# Altium integrated library TI_Logic_Gate.IntLib: 2017 symbols (part 29 of 56)
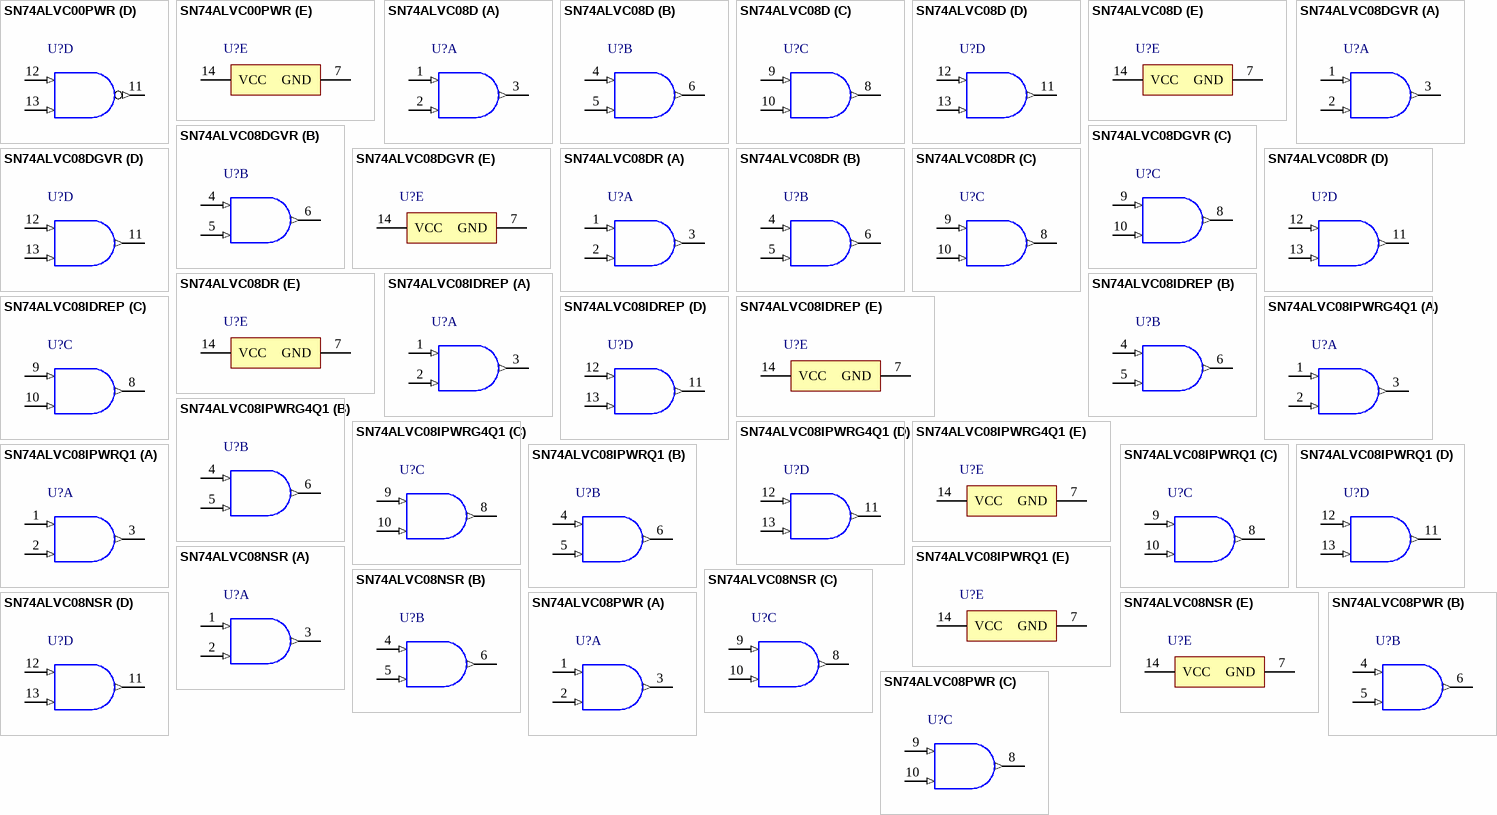
[diagram p253: symbols SN74ALVC00PWR to SN74ALVC08PWR]

## SN74ALVC08DGVR
designator U?
Quadruple 2-Input Positive-AND Gate, DGV0014A, LARGE T&R; Generic Part Number: SN74ALVC08; Manufacturer: Texas Instruments; PartNumber: SN74ALVC08DGVR; VCC(Min)(V): 1.65; VCC(Max)(V): 3.6; Output Type: TTL; ICC @ Nom Voltage(Max)(mA): 0.01; Bits(#): 4; F @ Nom Voltage(Max)(Mhz): 100; Rating: Catalog; Technology Family: ALVC; Voltage(Nom)(V): 1.8,2.5,2.7,3.3; Schmitt Trigger: No; Output Drive (IOL/IOH)(Max)(mA): -24/24; tpd @ Nom Voltage(Max)(ns): 5.3,3.3,3,2.9; DatasheetVersion: SCES101I; PackageReference: DGV0014A; Supplier 1: Mouser; Supplier Part Number 1: 595-SN74ALVC08DGVR; Supplier 2: Digi-Key; Supplier Part Number 2: 296-5107-2-ND; Supplier 3: Digi-Key; Supplier Part Number 3: 296-5107-1-ND; Supplier 4: Digi-Key; Supplier Part Number 4: 296-5107-6-ND; Input Type: TTL; Operating Temperature Range(C): -40 to 85; ComponentLink1Description: Manufacturer URL; ComponentLink1URL: http://www.ti.com/; ComponentLink2Description: Datasheet; ComponentLink2URL: http://www.ti.com/lit/ds/symlink/sn74alvc08.pdf
footprint DGV0014A_N (SOP, 14-Leads, Body 4.5x3.7mm, Pitch 0.4mm, IPC Medium Density)
footprint DGV0014A_M (SOP, 14-Leads, Body 4.5x3.7mm, Pitch 0.4mm, IPC Low Density)
footprint DGV0014A_L (SOP, 14-Leads, Body 4.5x3.7mm, Pitch 0.4mm, IPC High Density)
part A pins: 1 1A (in), 2 1B (in), 3 1Y (out)
part B pins: 4 2A (in), 5 2B (in), 6 2Y (out)
part C pins: 8 3Y (out), 9 3A (in), 10 3B (in)
part D pins: 11 4Y (out), 12 4A (in), 13 4B (in)
part E pins: 7 GND (power), 14 VCC (power)

## SN74ALVC08DR
designator U?
Quadruple 2-Input Positive-AND Gate, D0014A, LARGE T&R; Generic Part Number: SN74ALVC08; Manufacturer: Texas Instruments; PartNumber: SN74ALVC08DR; VCC(Min)(V): 1.65; VCC(Max)(V): 3.6; Output Type: TTL; ICC @ Nom Voltage(Max)(mA): 0.01; Bits(#): 4; F @ Nom Voltage(Max)(Mhz): 100; Rating: Catalog; Technology Family: ALVC; Voltage(Nom)(V): 1.8,2.5,2.7,3.3; Schmitt Trigger: No; Output Drive (IOL/IOH)(Max)(mA): -24/24; tpd @ Nom Voltage(Max)(ns): 5.3,3.3,3,2.9; DatasheetVersion: SCES101I; PackageReference: D0014A; Supplier 1: Mouser; Supplier Part Number 1: 595-SN74ALVC08DR; Supplier 2: Digi-Key; Supplier Part Number 2: 296-5108-2-ND; Supplier 3: Digi-Key; Supplier Part Number 3: 296-5108-1-ND; Supplier 4: Digi-Key; Supplier Part Number 4: 296-5108-6-ND; Input Type: TTL; Operating Temperature Range(C): -40 to 85; ComponentLink1Description: Manufacturer URL; ComponentLink1URL: http://www.ti.com/; ComponentLink2Description: Datasheet; ComponentLink2URL: http://www.ti.com/lit/ds/symlink/sn74alvc08.pdf
footprint D0014A_N (SOIC, 14-Leads, Body 8.75x4mm, Pitch 1.27mm, IPC Medium Density)
footprint D0014A_M (SOIC, 14-Leads, Body 8.75x4mm, Pitch 1.27mm, IPC Low Density)
footprint D0014A_L (SOIC, 14-Leads, Body 8.75x4mm, Pitch 1.27mm, IPC High Density)
part A pins: 1 1A (in), 2 1B (in), 3 1Y (out)
part B pins: 4 2A (in), 5 2B (in), 6 2Y (out)
part C pins: 8 3Y (out), 9 3A (in), 10 3B (in)
part D pins: 11 4Y (out), 12 4A (in), 13 4B (in)
part E pins: 7 GND (power), 14 VCC (power)

## SN74ALVC08IDREP
designator U?
Enhanced Product Quadruple 2-Input Positive-And Gate, D0014A, LARGE T&R; Generic Part Number: SN74ALVC08-EP; Manufacturer: Texas Instruments; PartNumber: SN74ALVC08IDREP; VCC(Min)(V): 1.65; VCC(Max)(V): 3.6; Output Type: TTL; ICC @ Nom Voltage(Max)(mA): 0.01; Bits(#): 4; F @ Nom Voltage(Max)(Mhz): 100; Rating: HiRel Enhanced Product; Technology Family: ALVC; Voltage(Nom)(V): 1.8,2.5,2.7,3.3; Schmitt Trigger: No; Output Drive (IOL/IOH)(Max)(mA): -24/24; tpd @ Nom Voltage(Max)(ns): 5.3,3.3,3,2.9; DatasheetVersion: SCES522A; PackageReference: D0014A; Supplier 1: Mouser; Supplier Part Number 1: 595-SN74ALVC08IDREP; Supplier 2: Digi-Key; Supplier Part Number 2: 296-20770-2-ND; Supplier 3: Digi-Key; Supplier Part Number 3: 296-20770-1-ND; Supplier 4: Digi-Key; Supplier Part Number 4: 296-20770-6-ND; Input Type: TTL; Operating Temperature Range(C): -40 to 85; ComponentLink1Description: Manufacturer URL; ComponentLink1URL: http://www.ti.com/; ComponentLink2Description: Datasheet; ComponentLink2URL: http://www.ti.com/lit/ds/symlink/sn74alvc08-ep.pdf
footprint D0014A_N (SOIC, 14-Leads, Body 8.75x4mm, Pitch 1.27mm, IPC Medium Density)
footprint D0014A_M (SOIC, 14-Leads, Body 8.75x4mm, Pitch 1.27mm, IPC Low Density)
footprint D0014A_L (SOIC, 14-Leads, Body 8.75x4mm, Pitch 1.27mm, IPC High Density)
part A pins: 1 1A (in), 2 1B (in), 3 1Y (out)
part B pins: 4 2A (in), 5 2B (in), 6 2Y (out)
part C pins: 8 3Y (out), 9 3A (in), 10 3B (in)
part D pins: 11 4Y (out), 12 4A (in), 13 4B (in)
part E pins: 7 GND (power), 14 VCC (power)

## SN74ALVC08IPWRG4Q1
designator U?
Automotive Catalog Quadruple 2-Input Positive-AND Gate, PW0014A, LARGE T&R; Generic Part Number: SN74ALVC08-Q1; Manufacturer: Texas Instruments; PartNumber: SN74ALVC08IPWRG4Q1; VCC(Min)(V): 1.65; VCC(Max)(V): 3.6; Output Type: TTL; ICC @ Nom Voltage(Max)(mA): 0.01; Bits(#): 4; F @ Nom Voltage(Max)(Mhz): 100; Technology Family: ALVC; Voltage(Nom)(V): 1.8,2.5,2.7,3.3; Schmitt Trigger: No; Output Drive (IOL/IOH)(Max)(mA): -24/24; tpd @ Nom Voltage(Max)(ns): 5.3,3.3,3,2.9; DatasheetVersion: SCES491C; PackageReference: PW0014A; Supplier 1: Mouser; Supplier Part Number 1: 595-74ALVC08IPWRG4Q1; Supplier 2: Digi-Key; Supplier Part Number 2: SN74ALVC08IPWRG4Q1-ND; Input Type: TTL; Operating Temperature Range(C): -40 to 85; Rating: Automotive; ComponentLink1Description: Manufacturer URL; ComponentLink1URL: http://www.ti.com/; ComponentLink2Description: Datasheet; ComponentLink2URL: http://www.ti.com/lit/ds/symlink/sn74alvc08-q1.pdf
footprint PW0014A_N (SOP, 14-Leads, Body 5.1x4.5mm, Pitch 0.65mm, IPC Medium Density)
footprint PW0014A_M (SOP, 14-Leads, Body 5.1x4.5mm, Pitch 0.65mm, IPC Low Density)
footprint PW0014A_L (SOP, 14-Leads, Body 5.1x4.5mm, Pitch 0.65mm, IPC High Density)
part A pins: 1 1A (in), 2 1B (in), 3 1Y (out)
part B pins: 4 2A (in), 5 2B (in), 6 2Y (out)
part C pins: 8 3Y (out), 9 3A (in), 10 3B (in)
part D pins: 11 4Y (out), 12 4A (in), 13 4B (in)
part E pins: 7 GND (power), 14 VCC (power)

## SN74ALVC08IPWRQ1
designator U?
Automotive Catalog Quadruple 2-Input Positive-AND Gate, PW0014A, LARGE T&R; Generic Part Number: SN74ALVC08-Q1; Manufacturer: Texas Instruments; PartNumber: SN74ALVC08IPWRQ1; VCC(Min)(V): 1.65; VCC(Max)(V): 3.6; Output Type: TTL; ICC @ Nom Voltage(Max)(mA): 0.01; Bits(#): 4; F @ Nom Voltage(Max)(Mhz): 100; Technology Family: ALVC; Voltage(Nom)(V): 1.8,2.5,2.7,3.3; Schmitt Trigger: No; Output Drive (IOL/IOH)(Max)(mA): -24/24; tpd @ Nom Voltage(Max)(ns): 5.3,3.3,3,2.9; DatasheetVersion: SCES491C; PackageReference: PW0014A; Supplier 1: Mouser; Supplier Part Number 1: 595-SN74ALVC08IPWRQ1; Supplier 2: Digi-Key; Supplier Part Number 2: 296-31757-2-ND; Supplier 3: Digi-Key; Supplier Part Number 3: 296-31757-1-ND; Supplier 4: Digi-Key; Supplier Part Number 4: 296-31757-6-ND; Input Type: TTL; Operating Temperature Range(C): -40 to 85; Rating: Automotive; ComponentLink1Description: Manufacturer URL; ComponentLink1URL: http://www.ti.com/; ComponentLink2Description: Datasheet; ComponentLink2URL: http://www.ti.com/lit/ds/symlink/sn74alvc08-q1.pdf
footprint PW0014A_N (SOP, 14-Leads, Body 5.1x4.5mm, Pitch 0.65mm, IPC Medium Density)
footprint PW0014A_M (SOP, 14-Leads, Body 5.1x4.5mm, Pitch 0.65mm, IPC Low Density)
footprint PW0014A_L (SOP, 14-Leads, Body 5.1x4.5mm, Pitch 0.65mm, IPC High Density)
part A pins: 1 1A (in), 2 1B (in), 3 1Y (out)
part B pins: 4 2A (in), 5 2B (in), 6 2Y (out)
part C pins: 8 3Y (out), 9 3A (in), 10 3B (in)
part D pins: 11 4Y (out), 12 4A (in), 13 4B (in)
part E pins: 7 GND (power), 14 VCC (power)

## SN74ALVC08NSR
designator U?
Quadruple 2-Input Positive-AND Gate, NS0014A, LARGE T&R; Generic Part Number: SN74ALVC08; Manufacturer: Texas Instruments; PartNumber: SN74ALVC08NSR; VCC(Min)(V): 1.65; VCC(Max)(V): 3.6; Output Type: TTL; ICC @ Nom Voltage(Max)(mA): 0.01; Bits(#): 4; F @ Nom Voltage(Max)(Mhz): 100; Rating: Catalog; Technology Family: ALVC; Voltage(Nom)(V): 1.8,2.5,2.7,3.3; Schmitt Trigger: No; Output Drive (IOL/IOH)(Max)(mA): -24/24; tpd @ Nom Voltage(Max)(ns): 5.3,3.3,3,2.9; DatasheetVersion: SCES101I; PackageReference: NS0014A; Supplier 1: Mouser; Supplier Part Number 1: 595-SN74ALVC08NSR; Supplier 2: Digi-Key; Supplier Part Number 2: 296-28869-2-ND; Supplier 3: Digi-Key; Supplier Part Number 3: 296-28869-1-ND; Supplier 4: Digi-Key; Supplier Part Number 4: 296-28869-6-ND; Input Type: TTL; Operating Temperature Range(C): -40 to 85; ComponentLink1Description: Manufacturer URL; ComponentLink1URL: http://www.ti.com/; ComponentLink2Description: Datasheet; ComponentLink2URL: http://www.ti.com/lit/ds/symlink/sn74alvc08.pdf
footprint NS0014A_N (SOIC,14-Leads,Body 10.5x5.6mm,Pitch 1.27mm,IPC Medium Density)
footprint NS0014A_M (SOIC,14-Leads,Body 10.5x5.6mm,Pitch 1.27mm,IPC Low Density)
footprint NS0014A_L (SOIC,14-Leads,Body 10.5x5.6mm,Pitch 0.4mm,IPC High Density)
part A pins: 1 1A (in), 2 1B (in), 3 1Y (out)
part B pins: 4 2A (in), 5 2B (in), 6 2Y (out)
part C pins: 8 3Y (out), 9 3A (in), 10 3B (in)
part D pins: 11 4Y (out), 12 4A (in), 13 4B (in)
part E pins: 7 GND (power), 14 VCC (power)

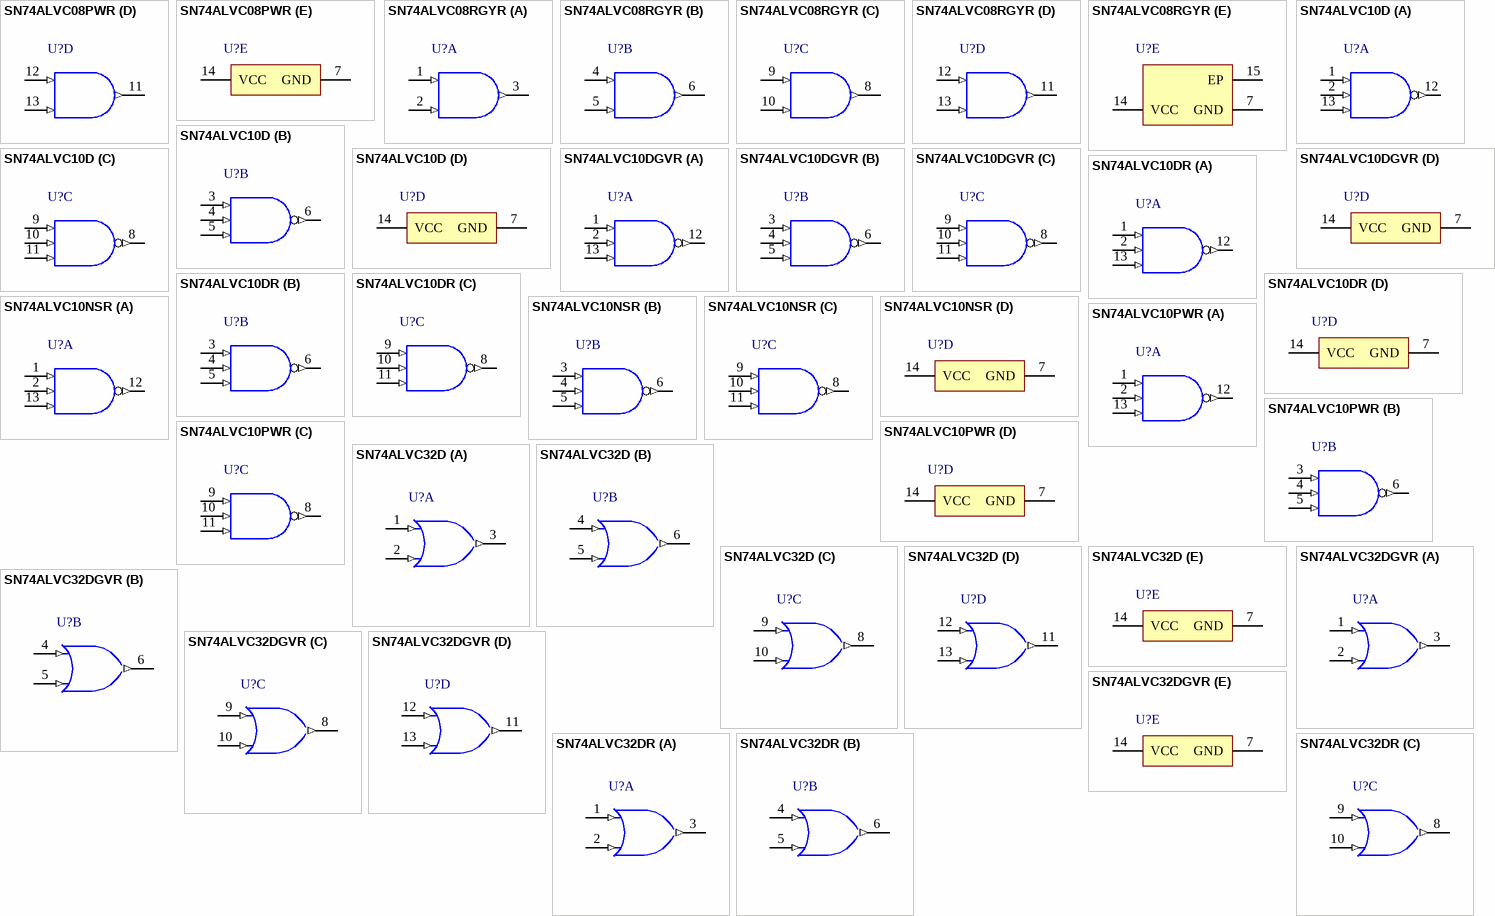
[diagram p115: symbols SN74ALVC08PWR to SN74ALVC32DR]

## SN74ALVC08PWR
designator U?
Quadruple 2-Input Positive-AND Gate, PW0014A, LARGE T&R; Generic Part Number: SN74ALVC08; Manufacturer: Texas Instruments; PartNumber: SN74ALVC08PWR; VCC(Min)(V): 1.65; VCC(Max)(V): 3.6; Output Type: TTL; ICC @ Nom Voltage(Max)(mA): 0.01; Bits(#): 4; F @ Nom Voltage(Max)(Mhz): 100; Rating: Catalog; Technology Family: ALVC; Voltage(Nom)(V): 1.8,2.5,2.7,3.3; Schmitt Trigger: No; Output Drive (IOL/IOH)(Max)(mA): -24/24; tpd @ Nom Voltage(Max)(ns): 5.3,3.3,3,2.9; DatasheetVersion: SCES101I; PackageReference: PW0014A; Supplier 1: Mouser; Supplier Part Number 1: 595-SN74ALVC08PWR; Supplier 2: Digi-Key; Supplier Part Number 2: 296-5109-2-ND; Supplier 3: Digi-Key; Supplier Part Number 3: 296-5109-1-ND; Supplier 4: Digi-Key; Supplier Part Number 4: 296-5109-6-ND; Input Type: TTL; Operating Temperature Range(C): -40 to 85; ComponentLink1Description: Manufacturer URL; ComponentLink1URL: http://www.ti.com/; ComponentLink2Description: Datasheet; ComponentLink2URL: http://www.ti.com/lit/ds/symlink/sn74alvc08.pdf
footprint PW0014A_N (SOP, 14-Leads, Body 5.1x4.5mm, Pitch 0.65mm, IPC Medium Density)
footprint PW0014A_M (SOP, 14-Leads, Body 5.1x4.5mm, Pitch 0.65mm, IPC Low Density)
footprint PW0014A_L (SOP, 14-Leads, Body 5.1x4.5mm, Pitch 0.65mm, IPC High Density)
part A pins: 1 1A (in), 2 1B (in), 3 1Y (out)
part B pins: 4 2A (in), 5 2B (in), 6 2Y (out)
part C pins: 8 3Y (out), 9 3A (in), 10 3B (in)
part D pins: 11 4Y (out), 12 4A (in), 13 4B (in)
part E pins: 7 GND (power), 14 VCC (power)

## SN74ALVC08RGYR
designator U?
Quadruple 2-Input Positive-AND Gate, RGY0014A, LARGE T&R; Generic Part Number: SN74ALVC08; Manufacturer: Texas Instruments; PartNumber: SN74ALVC08RGYR; VCC(Min)(V): 1.65; VCC(Max)(V): 3.6; Output Type: TTL; ICC @ Nom Voltage(Max)(mA): 0.01; Bits(#): 4; F @ Nom Voltage(Max)(Mhz): 100; Rating: Catalog; Technology Family: ALVC; Voltage(Nom)(V): 1.8,2.5,2.7,3.3; Schmitt Trigger: No; Output Drive (IOL/IOH)(Max)(mA): -24/24; tpd @ Nom Voltage(Max)(ns): 5.3,3.3,3,2.9; DatasheetVersion: SCES101I; PackageReference: RGY0014A; Supplier 1: Mouser; Supplier Part Number 1: 595-SN74ALVC08RGYR; Supplier 2: Digi-Key; Supplier Part Number 2: 296-13918-2-ND; Supplier 3: Digi-Key; Supplier Part Number 3: 296-13918-1-ND; Supplier 4: Digi-Key; Supplier Part Number 4: 296-13918-6-ND; Input Type: TTL; Operating Temperature Range(C): -40 to 85; ComponentLink1Description: Manufacturer URL; ComponentLink1URL: http://www.ti.com/; ComponentLink2Description: Datasheet; ComponentLink2URL: http://www.ti.com/lit/ds/symlink/sn74alvc08.pdf
footprint RGY0014A_V (QFN, 14-Leads, Body 3.5x3.5mm, Thermal Pad 2.05x2.05mm, TI Recommend)
part A pins: 1 1A (in) "1A Input", 2 1B (in) "1B Input", 3 1Y (out) "1Y Output"
part B pins: 4 2A (in) "2A Input", 5 2B (in) "2B Input", 6 2Y (out) "2Y Output"
part C pins: 8 3Y (out) "3Y Output", 9 3A (in) "3A Input", 10 3B (in) "3B Input"
part D pins: 11 4Y (out) "4Y Output", 12 4A (in) "4A Input", 13 4B (in) "4B Input"
part E pins: 7 GND (power) "Ground Pin", 14 VCC (power) "Power Pin", 15 EP

## SN74ALVC10D
designator U?
Triple 3-Input Positive-NAND Gate, D0014A, TUBE; Generic Part Number: SN74ALVC10; Manufacturer: Texas Instruments; PartNumber: SN74ALVC10D; VCC(Min)(V): 1.65; VCC(Max)(V): 3.6; Output Type: TTL; ICC @ Nom Voltage(Max)(mA): 0.01; Bits(#): 3; F @ Nom Voltage(Max)(Mhz): 100; Rating: Catalog; Technology Family: ALVC; Voltage(Nom)(V): 1.8,2.5,2.7,3.3; Schmitt Trigger: No; Output Drive (IOL/IOH)(Max)(mA): 24/-24; tpd @ Nom Voltage(Max)(ns): 4.8,3,3.3,3; DatasheetVersion: SCES106H; PackageReference: D0014A; Supplier 1: Mouser; Supplier Part Number 1: 595-SN74ALVC10D; Supplier 2: Digi-Key; Supplier Part Number 2: 296-1509-5-ND; Input Type: TTL; Operating Temperature Range(C): -40 to 85; Code_JEDEC: MS-012; ComponentLink1Description: Manufacturer URL; ComponentLink1URL: http://www.ti.com/; ComponentLink2Description: Datasheet; ComponentLink2URL: http://www.ti.com/lit/ds/symlink/sn74alvc10.pdf; ComponentLink3Description: Package Specification; ComponentLink3URL: http://www.ti.com/lit/ml/mpds177g/mpds177g.pdf
footprint D0014A_N (SOIC, 14-Leads, Body 8.75x4mm, Pitch 1.27mm, IPC Medium Density)
footprint D0014A_M (SOIC, 14-Leads, Body 8.75x4mm, Pitch 1.27mm, IPC Low Density)
footprint D0014A_L (SOIC, 14-Leads, Body 8.75x4mm, Pitch 1.27mm, IPC High Density)
part A pins: 1 1A (in), 2 1B (in), 12 1Y (out), 13 1C (in)
part B pins: 3 2A (in), 4 2B (in), 5 2C (in), 6 2Y (out)
part C pins: 8 3Y (out), 9 3A (in), 10 3B (in), 11 3C (in)
part D pins: 7 GND (power), 14 VCC (power)

## SN74ALVC10DGVR
designator U?
Triple 3-Input Positive-NAND Gate, DGV0014A, LARGE T&R; Generic Part Number: SN74ALVC10; Manufacturer: Texas Instruments; PartNumber: SN74ALVC10DGVR; VCC(Min)(V): 1.65; VCC(Max)(V): 3.6; Output Type: TTL; ICC @ Nom Voltage(Max)(mA): 0.01; Bits(#): 3; F @ Nom Voltage(Max)(Mhz): 100; Rating: Catalog; Technology Family: ALVC; Voltage(Nom)(V): 1.8,2.5,2.7,3.3; Schmitt Trigger: No; Output Drive (IOL/IOH)(Max)(mA): 24/-24; tpd @ Nom Voltage(Max)(ns): 4.8,3,3.3,3; DatasheetVersion: SCES106H; PackageReference: DGV0014A; Supplier 1: Mouser; Supplier Part Number 1: 595-SN74ALVC10DGVR; Supplier 2: Digi-Key; Supplier Part Number 2: 296-5110-2-ND; Supplier 3: Digi-Key; Supplier Part Number 3: 296-5110-1-ND; Supplier 4: Digi-Key; Supplier Part Number 4: 296-5110-6-ND; Input Type: TTL; Operating Temperature Range(C): -40 to 85; Code_JEDEC: MO-194; ComponentLink1Description: Manufacturer URL; ComponentLink1URL: http://www.ti.com/; ComponentLink2Description: Datasheet; ComponentLink2URL: http://www.ti.com/lit/ds/symlink/sn74alvc10.pdf; ComponentLink3Description: Package Specification; ComponentLink3URL: http://www.ti.com/lit/ml/mpds006c/mpds006c.pdf
footprint DGV0014A_N (SOP, 14-Leads, Body 4.5x3.7mm, Pitch 0.4mm, IPC Medium Density)
footprint DGV0014A_M (SOP, 14-Leads, Body 4.5x3.7mm, Pitch 0.4mm, IPC Low Density)
footprint DGV0014A_L (SOP, 14-Leads, Body 4.5x3.7mm, Pitch 0.4mm, IPC High Density)
part A pins: 1 1A (in), 2 1B (in), 12 1Y (out), 13 1C (in)
part B pins: 3 2A (in), 4 2B (in), 5 2C (in), 6 2Y (out)
part C pins: 8 3Y (out), 9 3A (in), 10 3B (in), 11 3C (in)
part D pins: 7 GND (power), 14 VCC (power)

## SN74ALVC10DR
designator U?
Triple 3-Input Positive-NAND Gate, D0014A, LARGE T&R; Generic Part Number: SN74ALVC10; Manufacturer: Texas Instruments; PartNumber: SN74ALVC10DR; VCC(Min)(V): 1.65; VCC(Max)(V): 3.6; Output Type: TTL; ICC @ Nom Voltage(Max)(mA): 0.01; Bits(#): 3; F @ Nom Voltage(Max)(Mhz): 100; Rating: Catalog; Technology Family: ALVC; Voltage(Nom)(V): 1.8,2.5,2.7,3.3; Schmitt Trigger: No; Output Drive (IOL/IOH)(Max)(mA): 24/-24; tpd @ Nom Voltage(Max)(ns): 4.8,3,3.3,3; DatasheetVersion: SCES106H; PackageReference: D0014A; Supplier 1: Mouser; Supplier Part Number 1: 595-SN74ALVC10DR; Supplier 2: Digi-Key; Supplier Part Number 2: 296-1509-2-ND; Supplier 3: Digi-Key; Supplier Part Number 3: 296-1509-1-ND; Supplier 4: Digi-Key; Supplier Part Number 4: 296-1509-6-ND; Input Type: TTL; Operating Temperature Range(C): -40 to 85; Code_JEDEC: MS-012; ComponentLink1Description: Manufacturer URL; ComponentLink1URL: http://www.ti.com/; ComponentLink2Description: Datasheet; ComponentLink2URL: http://www.ti.com/lit/ds/symlink/sn74alvc10.pdf; ComponentLink3Description: Package Specification; ComponentLink3URL: http://www.ti.com/lit/ml/mpds177g/mpds177g.pdf
footprint D0014A_N (SOIC, 14-Leads, Body 8.75x4mm, Pitch 1.27mm, IPC Medium Density)
footprint D0014A_M (SOIC, 14-Leads, Body 8.75x4mm, Pitch 1.27mm, IPC Low Density)
footprint D0014A_L (SOIC, 14-Leads, Body 8.75x4mm, Pitch 1.27mm, IPC High Density)
part A pins: 1 1A (in), 2 1B (in), 12 1Y (out), 13 1C (in)
part B pins: 3 2A (in), 4 2B (in), 5 2C (in), 6 2Y (out)
part C pins: 8 3Y (out), 9 3A (in), 10 3B (in), 11 3C (in)
part D pins: 7 GND (power), 14 VCC (power)

## SN74ALVC10NSR
designator U?
Triple 3-Input Positive-NAND Gate, NS0014A, LARGE T&R; Generic Part Number: SN74ALVC10; Manufacturer: Texas Instruments; PartNumber: SN74ALVC10NSR; VCC(Min)(V): 1.65; VCC(Max)(V): 3.6; Output Type: TTL; ICC @ Nom Voltage(Max)(mA): 0.01; Bits(#): 3; F @ Nom Voltage(Max)(Mhz): 100; Rating: Catalog; Technology Family: ALVC; Voltage(Nom)(V): 1.8,2.5,2.7,3.3; Schmitt Trigger: No; Output Drive (IOL/IOH)(Max)(mA): 24/-24; tpd @ Nom Voltage(Max)(ns): 4.8,3,3.3,3; DatasheetVersion: SCES106H; PackageReference: NS0014A; Supplier 1: Mouser; Supplier Part Number 1: 595-SN74ALVC10NSR; Supplier 2: Digi-Key; Supplier Part Number 2: 296-5111-2-ND; Supplier 3: Digi-Key; Supplier Part Number 3: 296-5111-1-ND; Supplier 4: Digi-Key; Supplier Part Number 4: 296-5111-6-ND; Input Type: TTL; Operating Temperature Range(C): -40 to 85; ComponentLink1Description: Manufacturer URL; ComponentLink1URL: http://www.ti.com/; ComponentLink2Description: Datasheet; ComponentLink2URL: http://www.ti.com/lit/ds/symlink/sn74alvc10.pdf; ComponentLink3Description: Package Specification; ComponentLink3URL: http://www.ti.com/lit/ml/msop002a/msop002a.pdf
footprint NS0014A_N (SOIC,14-Leads,Body 10.5x5.6mm,Pitch 1.27mm,IPC Medium Density)
footprint NS0014A_M (SOIC,14-Leads,Body 10.5x5.6mm,Pitch 1.27mm,IPC Low Density)
footprint NS0014A_L (SOIC,14-Leads,Body 10.5x5.6mm,Pitch 0.4mm,IPC High Density)
part A pins: 1 1A (in), 2 1B (in), 12 1Y (out), 13 1C (in)
part B pins: 3 2A (in), 4 2B (in), 5 2C (in), 6 2Y (out)
part C pins: 8 3Y (out), 9 3A (in), 10 3B (in), 11 3C (in)
part D pins: 7 GND (power), 14 VCC (power)

## SN74ALVC10PWR
designator U?
Triple 3-Input Positive-NAND Gate, PW0014A, LARGE T&R; Generic Part Number: SN74ALVC10; Manufacturer: Texas Instruments; PartNumber: SN74ALVC10PWR; VCC(Min)(V): 1.65; VCC(Max)(V): 3.6; Output Type: TTL; ICC @ Nom Voltage(Max)(mA): 0.01; Bits(#): 3; F @ Nom Voltage(Max)(Mhz): 100; Rating: Catalog; Technology Family: ALVC; Voltage(Nom)(V): 1.8,2.5,2.7,3.3; Schmitt Trigger: No; Output Drive (IOL/IOH)(Max)(mA): 24/-24; tpd @ Nom Voltage(Max)(ns): 4.8,3,3.3,3; DatasheetVersion: SCES106H; PackageReference: PW0014A; Supplier 1: Mouser; Supplier Part Number 1: 595-SN74ALVC10PWR; Supplier 2: Digi-Key; Supplier Part Number 2: 296-5112-2-ND; Supplier 3: Digi-Key; Supplier Part Number 3: 296-5112-1-ND; Supplier 4: Digi-Key; Supplier Part Number 4: 296-5112-6-ND; Input Type: TTL; Operating Temperature Range(C): -40 to 85; Code_JEDEC: MO-153; ComponentLink1Description: Manufacturer URL; ComponentLink1URL: http://www.ti.com/; ComponentLink2Description: Datasheet; ComponentLink2URL: http://www.ti.com/lit/ds/symlink/sn74alvc10.pdf; ComponentLink3Description: Package Specification; ComponentLink3URL: http://www.ti.com/lit/ml/mpds360/mpds360.pdf
footprint PW0014A_N (SOP, 14-Leads, Body 5.1x4.5mm, Pitch 0.65mm, IPC Medium Density)
footprint PW0014A_M (SOP, 14-Leads, Body 5.1x4.5mm, Pitch 0.65mm, IPC Low Density)
footprint PW0014A_L (SOP, 14-Leads, Body 5.1x4.5mm, Pitch 0.65mm, IPC High Density)
part A pins: 1 1A (in), 2 1B (in), 12 1Y (out), 13 1C (in)
part B pins: 3 2A (in), 4 2B (in), 5 2C (in), 6 2Y (out)
part C pins: 8 3Y (out), 9 3A (in), 10 3B (in), 11 3C (in)
part D pins: 7 GND (power), 14 VCC (power)

## SN74ALVC32D
designator U?
Quadruple 2-Input Positive-OR Gate, D0014A, TUBE; Generic Part Number: SN74ALVC32; Manufacturer: Texas Instruments; PartNumber: SN74ALVC32D; VCC(Min)(V): 1.65; VCC(Max)(V): 3.6; Output Type: TTL; ICC @ Nom Voltage(Max)(mA): 0.01; Bits(#): 4; F @ Nom Voltage(Max)(Mhz): 100; Rating: Catalog; Voltage(Nom)(V): 1.8,2.5,2.7,3.3; Output Drive (IOL/IOH)(Max)(mA): 24/-24; tpd @ Nom Voltage(Max)(ns): 4.7,3.1,2.9,2.8; DatasheetVersion: SCES108G; PackageReference: D0014A; Input Type: TTL; Operating Temperature Range(C): -40 to 85; Code_JEDEC: MS-012; ComponentLink1Description: Manufacturer URL; ComponentLink1URL: http://www.ti.com/; ComponentLink2Description: Datasheet; ComponentLink2URL: http://www.ti.com/lit/ds/symlink/sn74alvc32.pdf; ComponentLink3Description: Package Specification; ComponentLink3URL: http://www.ti.com/lit/ml/mpds177g/mpds177g.pdf
footprint D0014A_N (SOIC, 14-Leads, Body 8.75x4mm, Pitch 1.27mm, IPC Medium Density)
footprint D0014A_M (SOIC, 14-Leads, Body 8.75x4mm, Pitch 1.27mm, IPC Low Density)
footprint D0014A_L (SOIC, 14-Leads, Body 8.75x4mm, Pitch 1.27mm, IPC High Density)
part A pins: 1 1A (in), 2 1B (in), 3 1Y (out)
part B pins: 4 2A (in), 5 2B (in), 6 2Y (out)
part C pins: 8 3Y (out), 9 3A (in), 10 3B (in)
part D pins: 11 4Y (out), 12 4A (in), 13 4B (in)
part E pins: 7 GND (power), 14 VCC (power)

## SN74ALVC32DGVR
designator U?
Quadruple 2-Input Positive-OR Gate, DGV0014A, LARGE T&R; Generic Part Number: SN74ALVC32; Manufacturer: Texas Instruments; PartNumber: SN74ALVC32DGVR; VCC(Min)(V): 1.65; VCC(Max)(V): 3.6; Output Type: TTL; ICC @ Nom Voltage(Max)(mA): 0.01; Bits(#): 4; F @ Nom Voltage(Max)(Mhz): 100; Rating: Catalog; Voltage(Nom)(V): 1.8,2.5,2.7,3.3; Output Drive (IOL/IOH)(Max)(mA): 24/-24; tpd @ Nom Voltage(Max)(ns): 4.7,3.1,2.9,2.8; DatasheetVersion: SCES108G; PackageReference: DGV0014A; Input Type: TTL; Operating Temperature Range(C): -40 to 85; Code_JEDEC: MO-194; ComponentLink1Description: Manufacturer URL; ComponentLink1URL: http://www.ti.com/; ComponentLink2Description: Datasheet; ComponentLink2URL: http://www.ti.com/lit/ds/symlink/sn74alvc32.pdf; ComponentLink3Description: Package Specification; ComponentLink3URL: http://www.ti.com/lit/ml/mpds006c/mpds006c.pdf
footprint DGV0014A_N (SOP, 14-Leads, Body 4.5x3.7mm, Pitch 0.4mm, IPC Medium Density)
footprint DGV0014A_M (SOP, 14-Leads, Body 4.5x3.7mm, Pitch 0.4mm, IPC Low Density)
footprint DGV0014A_L (SOP, 14-Leads, Body 4.5x3.7mm, Pitch 0.4mm, IPC High Density)
part A pins: 1 1A (in), 2 1B (in), 3 1Y (out)
part B pins: 4 2A (in), 5 2B (in), 6 2Y (out)
part C pins: 8 3Y (out), 9 3A (in), 10 3B (in)
part D pins: 11 4Y (out), 12 4A (in), 13 4B (in)
part E pins: 7 GND (power), 14 VCC (power)

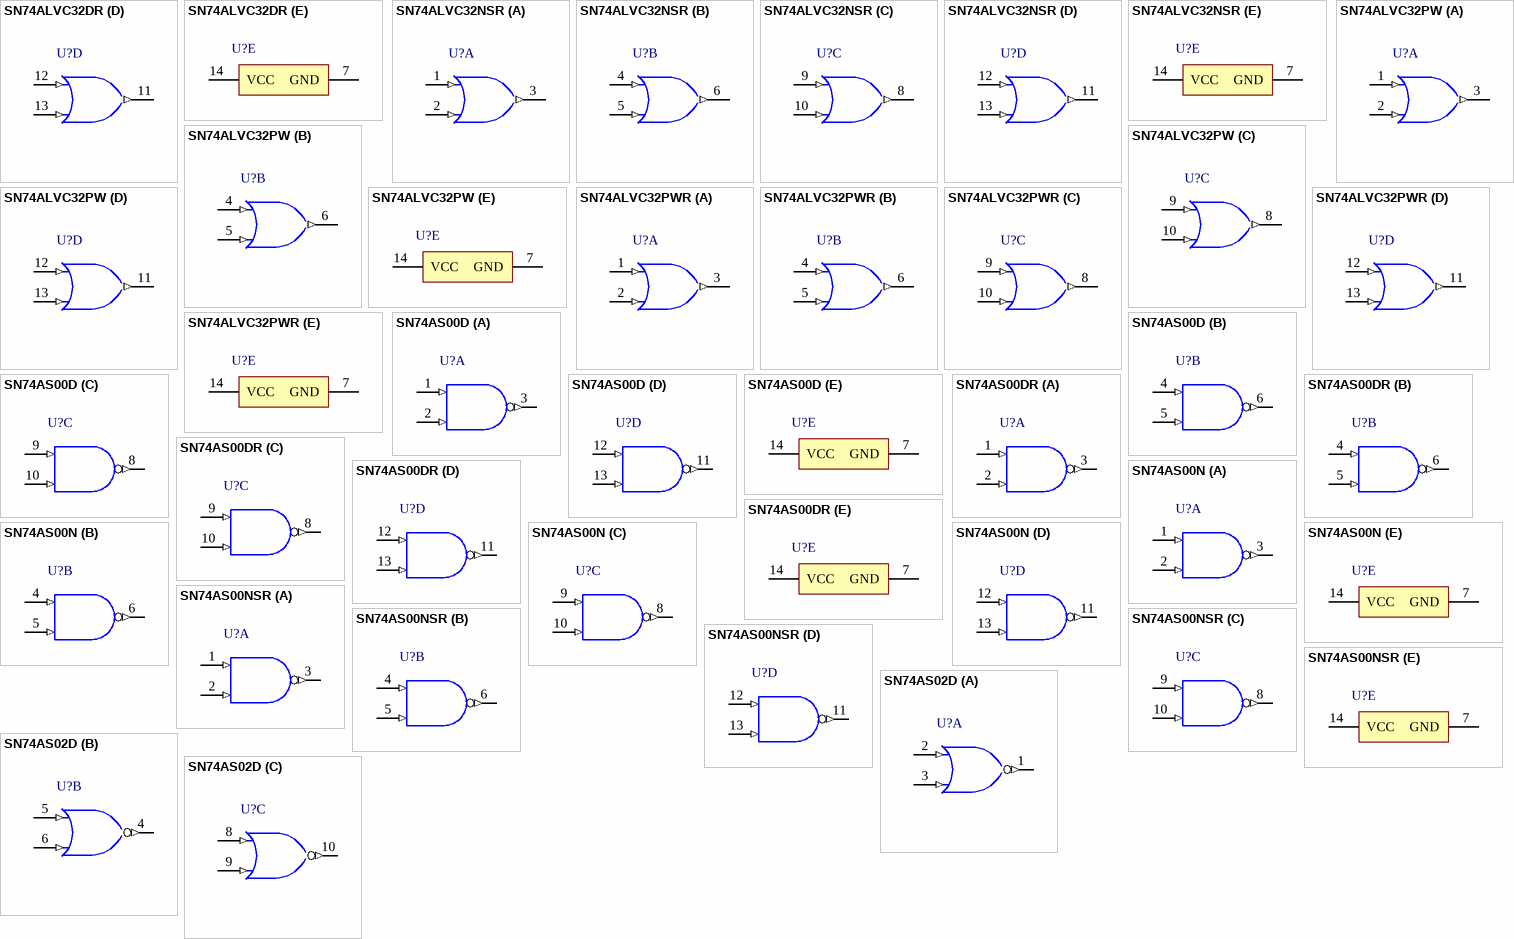
[diagram p116: symbols SN74ALVC32DR to SN74AS02D]

## SN74ALVC32DR
designator U?
Quadruple 2-Input Positive-OR Gate, D0014A, LARGE T&R; Generic Part Number: SN74ALVC32; Manufacturer: Texas Instruments; PartNumber: SN74ALVC32DR; VCC(Min)(V): 1.65; VCC(Max)(V): 3.6; Output Type: TTL; ICC @ Nom Voltage(Max)(mA): 0.01; Bits(#): 4; F @ Nom Voltage(Max)(Mhz): 100; Rating: Catalog; Voltage(Nom)(V): 1.8,2.5,2.7,3.3; Output Drive (IOL/IOH)(Max)(mA): 24/-24; tpd @ Nom Voltage(Max)(ns): 4.7,3.1,2.9,2.8; DatasheetVersion: SCES108G; PackageReference: D0014A; Input Type: TTL; Operating Temperature Range(C): -40 to 85; Code_JEDEC: MS-012; ComponentLink1Description: Manufacturer URL; ComponentLink1URL: http://www.ti.com/; ComponentLink2Description: Datasheet; ComponentLink2URL: http://www.ti.com/lit/ds/symlink/sn74alvc32.pdf; ComponentLink3Description: Package Specification; ComponentLink3URL: http://www.ti.com/lit/ml/mpds177g/mpds177g.pdf
footprint D0014A_N (SOIC, 14-Leads, Body 8.75x4mm, Pitch 1.27mm, IPC Medium Density)
footprint D0014A_M (SOIC, 14-Leads, Body 8.75x4mm, Pitch 1.27mm, IPC Low Density)
footprint D0014A_L (SOIC, 14-Leads, Body 8.75x4mm, Pitch 1.27mm, IPC High Density)
part A pins: 1 1A (in), 2 1B (in), 3 1Y (out)
part B pins: 4 2A (in), 5 2B (in), 6 2Y (out)
part C pins: 8 3Y (out), 9 3A (in), 10 3B (in)
part D pins: 11 4Y (out), 12 4A (in), 13 4B (in)
part E pins: 7 GND (power), 14 VCC (power)

## SN74ALVC32NSR
designator U?
Quadruple 2-Input Positive-OR Gate, NS0014A, LARGE T&R; Generic Part Number: SN74ALVC32; Manufacturer: Texas Instruments; PartNumber: SN74ALVC32NSR; VCC(Min)(V): 1.65; VCC(Max)(V): 3.6; Output Type: TTL; ICC @ Nom Voltage(Max)(mA): 0.01; Bits(#): 4; F @ Nom Voltage(Max)(Mhz): 100; Rating: Catalog; Voltage(Nom)(V): 1.8,2.5,2.7,3.3; Output Drive (IOL/IOH)(Max)(mA): 24/-24; tpd @ Nom Voltage(Max)(ns): 4.7,3.1,2.9,2.8; DatasheetVersion: SCES108G; PackageReference: NS0014A; Input Type: TTL; Operating Temperature Range(C): -40 to 85; ComponentLink1Description: Manufacturer URL; ComponentLink1URL: http://www.ti.com/; ComponentLink2Description: Datasheet; ComponentLink2URL: http://www.ti.com/lit/ds/symlink/sn74alvc32.pdf; ComponentLink3Description: Package Specification; ComponentLink3URL: http://www.ti.com/lit/ml/msop002a/msop002a.pdf
footprint NS0014A_N (SOIC,14-Leads,Body 10.5x5.6mm,Pitch 1.27mm,IPC Medium Density)
footprint NS0014A_M (SOIC,14-Leads,Body 10.5x5.6mm,Pitch 1.27mm,IPC Low Density)
footprint NS0014A_L (SOIC,14-Leads,Body 10.5x5.6mm,Pitch 0.4mm,IPC High Density)
part A pins: 1 1A (in), 2 1B (in), 3 1Y (out)
part B pins: 4 2A (in), 5 2B (in), 6 2Y (out)
part C pins: 8 3Y (out), 9 3A (in), 10 3B (in)
part D pins: 11 4Y (out), 12 4A (in), 13 4B (in)
part E pins: 7 GND (power), 14 VCC (power)

## SN74ALVC32PW
designator U?
Quadruple 2-Input Positive-OR Gate, PW0014A, TUBE; Generic Part Number: SN74ALVC32; Manufacturer: Texas Instruments; PartNumber: SN74ALVC32PW; VCC(Min)(V): 1.65; VCC(Max)(V): 3.6; Output Type: TTL; ICC @ Nom Voltage(Max)(mA): 0.01; Bits(#): 4; F @ Nom Voltage(Max)(Mhz): 100; Rating: Catalog; Voltage(Nom)(V): 1.8,2.5,2.7,3.3; Output Drive (IOL/IOH)(Max)(mA): 24/-24; tpd @ Nom Voltage(Max)(ns): 4.7,3.1,2.9,2.8; DatasheetVersion: SCES108G; PackageReference: PW0014A; Input Type: TTL; Operating Temperature Range(C): -40 to 85; Code_JEDEC: MO-153; ComponentLink1Description: Manufacturer URL; ComponentLink1URL: http://www.ti.com/; ComponentLink2Description: Datasheet; ComponentLink2URL: http://www.ti.com/lit/ds/symlink/sn74alvc32.pdf; ComponentLink3Description: Package Specification; ComponentLink3URL: http://www.ti.com/lit/ml/mpds360/mpds360.pdf
footprint PW0014A_N (SOP, 14-Leads, Body 5.1x4.5mm, Pitch 0.65mm, IPC Medium Density)
footprint PW0014A_M (SOP, 14-Leads, Body 5.1x4.5mm, Pitch 0.65mm, IPC Low Density)
footprint PW0014A_L (SOP, 14-Leads, Body 5.1x4.5mm, Pitch 0.65mm, IPC High Density)
part A pins: 1 1A (in), 2 1B (in), 3 1Y (out)
part B pins: 4 2A (in), 5 2B (in), 6 2Y (out)
part C pins: 8 3Y (out), 9 3A (in), 10 3B (in)
part D pins: 11 4Y (out), 12 4A (in), 13 4B (in)
part E pins: 7 GND (power), 14 VCC (power)

## SN74ALVC32PWR
designator U?
Quadruple 2-Input Positive-OR Gate, PW0014A, LARGE T&R; Generic Part Number: SN74ALVC32; Manufacturer: Texas Instruments; PartNumber: SN74ALVC32PWR; VCC(Min)(V): 1.65; VCC(Max)(V): 3.6; Output Type: TTL; ICC @ Nom Voltage(Max)(mA): 0.01; Bits(#): 4; F @ Nom Voltage(Max)(Mhz): 100; Rating: Catalog; Voltage(Nom)(V): 1.8,2.5,2.7,3.3; Output Drive (IOL/IOH)(Max)(mA): 24/-24; tpd @ Nom Voltage(Max)(ns): 4.7,3.1,2.9,2.8; DatasheetVersion: SCES108G; PackageReference: PW0014A; Input Type: TTL; Operating Temperature Range(C): -40 to 85; Code_JEDEC: MO-153; ComponentLink1Description: Manufacturer URL; ComponentLink1URL: http://www.ti.com/; ComponentLink2Description: Datasheet; ComponentLink2URL: http://www.ti.com/lit/ds/symlink/sn74alvc32.pdf; ComponentLink3Description: Package Specification; ComponentLink3URL: http://www.ti.com/lit/ml/mpds360/mpds360.pdf
footprint PW0014A_N (SOP, 14-Leads, Body 5.1x4.5mm, Pitch 0.65mm, IPC Medium Density)
footprint PW0014A_M (SOP, 14-Leads, Body 5.1x4.5mm, Pitch 0.65mm, IPC Low Density)
footprint PW0014A_L (SOP, 14-Leads, Body 5.1x4.5mm, Pitch 0.65mm, IPC High Density)
part A pins: 1 1A (in), 2 1B (in), 3 1Y (out)
part B pins: 4 2A (in), 5 2B (in), 6 2Y (out)
part C pins: 8 3Y (out), 9 3A (in), 10 3B (in)
part D pins: 11 4Y (out), 12 4A (in), 13 4B (in)
part E pins: 7 GND (power), 14 VCC (power)

## SN74AS00D
designator U?
Quadruple 2-Input Positive-NAND Gates, D0014A, TUBE; Generic Part Number: SN74AS00; Manufacturer: Texas Instruments; PartNumber: SN74AS00D; VCC(Min)(V): 4.5; VCC(Max)(V): 5.5; Output Type: TTL; ICC @ Nom Voltage(Max)(mA): 0.003; Bits(#): 4; F @ Nom Voltage(Max)(Mhz): 35; Rating: Catalog; Technology Family: AS; Voltage(Nom)(V): 5; Schmitt Trigger: No; Output Drive (IOL/IOH)(Max)(mA): 0.4/-8; DatasheetVersion: SDAS187A; PackageReference: D0014A; Supplier 1: Mouser; Supplier Part Number 1: 595-SN74AS00D; Supplier 2: Digi-Key; Supplier Part Number 2: 296-6323-5-ND; Input Type: TTL; Operating Temperature Range(C): 0 to 70; tpd @ Nom Voltage(Max)(ns): 4.5; Code_JEDEC: MS-012; ComponentLink1Description: Manufacturer URL; ComponentLink1URL: http://www.ti.com/; ComponentLink2Description: Datasheet; ComponentLink2URL: http://www.ti.com/lit/ds/symlink/sn74as00.pdf; ComponentLink3Description: Package Specification; ComponentLink3URL: http://www.ti.com/lit/ml/mpds177g/mpds177g.pdf
footprint D0014A_N (SOIC, 14-Leads, Body 8.75x4mm, Pitch 1.27mm, IPC Medium Density)
footprint D0014A_M (SOIC, 14-Leads, Body 8.75x4mm, Pitch 1.27mm, IPC Low Density)
footprint D0014A_L (SOIC, 14-Leads, Body 8.75x4mm, Pitch 1.27mm, IPC High Density)
part A pins: 1 1A (in) "Gate 1 input", 2 1B (in) "Gate 1 input", 3 1Y (out) "Gate 1 output"
part B pins: 4 2A (in) "Gate 2 input", 5 2B (in) "Gate 2 input", 6 2Y (out) "Gate 2 output"
part C pins: 8 3Y (out) "Gate 3 output", 9 3A (in) "Gate 3 input", 10 3B (in) "Gate 3 input"
part D pins: 11 4Y (out) "Gate 4 output", 12 4A (in) "Gate 4 input", 13 4B (in) "Gate 4 input"
part E pins: 7 GND (power) "Ground Pin", 14 VCC (power) "Power Pin"

## SN74AS00DR
designator U?
Quadruple 2-Input Positive-NAND Gates, D0014A, LARGE T&R; Generic Part Number: SN74AS00; Manufacturer: Texas Instruments; PartNumber: SN74AS00DR; VCC(Min)(V): 4.5; VCC(Max)(V): 5.5; Output Type: TTL; ICC @ Nom Voltage(Max)(mA): 0.003; Bits(#): 4; F @ Nom Voltage(Max)(Mhz): 35; Rating: Catalog; Technology Family: AS; Voltage(Nom)(V): 5; Schmitt Trigger: No; Output Drive (IOL/IOH)(Max)(mA): 0.4/-8; DatasheetVersion: SDAS187A; PackageReference: D0014A; Supplier 1: Mouser; Supplier Part Number 1: 595-SN74AS00DR; Supplier 2: Digi-Key; Supplier Part Number 2: 296-14787-2-ND; Supplier 3: Digi-Key; Supplier Part Number 3: 296-14787-1-ND; Supplier 4: Digi-Key; Supplier Part Number 4: 296-14787-6-ND; Input Type: TTL; Operating Temperature Range(C): 0 to 70; tpd @ Nom Voltage(Max)(ns): 4.5; Code_JEDEC: MS-012; ComponentLink1Description: Manufacturer URL; ComponentLink1URL: http://www.ti.com/; ComponentLink2Description: Datasheet; ComponentLink2URL: http://www.ti.com/lit/ds/symlink/sn74as00.pdf; ComponentLink3Description: Package Specification; ComponentLink3URL: http://www.ti.com/lit/ml/mpds177g/mpds177g.pdf
footprint D0014A_N (SOIC, 14-Leads, Body 8.75x4mm, Pitch 1.27mm, IPC Medium Density)
footprint D0014A_M (SOIC, 14-Leads, Body 8.75x4mm, Pitch 1.27mm, IPC Low Density)
footprint D0014A_L (SOIC, 14-Leads, Body 8.75x4mm, Pitch 1.27mm, IPC High Density)
part A pins: 1 1A (in) "Gate 1 input", 2 1B (in) "Gate 1 input", 3 1Y (out) "Gate 1 output"
part B pins: 4 2A (in) "Gate 2 input", 5 2B (in) "Gate 2 input", 6 2Y (out) "Gate 2 output"
part C pins: 8 3Y (out) "Gate 3 output", 9 3A (in) "Gate 3 input", 10 3B (in) "Gate 3 input"
part D pins: 11 4Y (out) "Gate 4 output", 12 4A (in) "Gate 4 input", 13 4B (in) "Gate 4 input"
part E pins: 7 GND (power) "Ground Pin", 14 VCC (power) "Power Pin"

## SN74AS00N
designator U?
Quadruple 2-Input Positive-NAND Gates, N0014A, TUBE; Generic Part Number: SN74AS00; Manufacturer: Texas Instruments; PartNumber: SN74AS00N; VCC(Min)(V): 4.5; VCC(Max)(V): 5.5; Output Type: TTL; ICC @ Nom Voltage(Max)(mA): 0.003; Bits(#): 4; F @ Nom Voltage(Max)(Mhz): 35; Rating: Catalog; Technology Family: AS; Voltage(Nom)(V): 5; Schmitt Trigger: No; Output Drive (IOL/IOH)(Max)(mA): 0.4/-8; DatasheetVersion: SDAS187A; PackageReference: N0014A; Supplier 1: Mouser; Supplier Part Number 1: 595-SN74AS00N; Supplier 2: Digi-Key; Supplier Part Number 2: 296-1521-5-ND; Input Type: TTL; Operating Temperature Range(C): 0 to 70; tpd @ Nom Voltage(Max)(ns): 4.5; Code_JEDEC: MS-001; ComponentLink1Description: Manufacturer URL; ComponentLink1URL: http://www.ti.com/; ComponentLink2Description: Datasheet; ComponentLink2URL: http://www.ti.com/lit/ds/symlink/sn74as00.pdf; ComponentLink3Description: Package Specification; ComponentLink3URL: http://www.ti.com/lit/ml/mpdi002c/mpdi002c.pdf
footprint N0014A (DIP, 14-Leads, Body 19.7x6.6mm, Pitch 2.54mm)
part A pins: 1 1A (in) "Gate 1 input", 2 1B (in) "Gate 1 input", 3 1Y (out) "Gate 1 output"
part B pins: 4 2A (in) "Gate 2 input", 5 2B (in) "Gate 2 input", 6 2Y (out) "Gate 2 output"
part C pins: 8 3Y (out) "Gate 3 output", 9 3A (in) "Gate 3 input", 10 3B (in) "Gate 3 input"
part D pins: 11 4Y (out) "Gate 4 output", 12 4A (in) "Gate 4 input", 13 4B (in) "Gate 4 input"
part E pins: 7 GND (power) "Ground Pin", 14 VCC (power) "Power Pin"

## SN74AS00NSR
designator U?
Quadruple 2-Input Positive-NAND Gates, NS0014A, LARGE T&R; Generic Part Number: SN74AS00; Manufacturer: Texas Instruments; PartNumber: SN74AS00NSR; VCC(Min)(V): 4.5; VCC(Max)(V): 5.5; Output Type: TTL; ICC @ Nom Voltage(Max)(mA): 0.003; Bits(#): 4; F @ Nom Voltage(Max)(Mhz): 35; Rating: Catalog; Technology Family: AS; Voltage(Nom)(V): 5; Schmitt Trigger: No; Output Drive (IOL/IOH)(Max)(mA): 0.4/-8; DatasheetVersion: SDAS187A; PackageReference: NS0014A; Supplier 1: Mouser; Supplier Part Number 1: 595-SN74AS00NSR; Supplier 2: Digi-Key; Supplier Part Number 2: 296-29994-2-ND; Supplier 3: Digi-Key; Supplier Part Number 3: 296-29994-1-ND; Supplier 4: Digi-Key; Supplier Part Number 4: 296-29994-6-ND; Input Type: TTL; Operating Temperature Range(C): 0 to 70; tpd @ Nom Voltage(Max)(ns): 4.5; ComponentLink1Description: Manufacturer URL; ComponentLink1URL: http://www.ti.com/; ComponentLink2Description: Datasheet; ComponentLink2URL: http://www.ti.com/lit/ds/symlink/sn74as00.pdf; ComponentLink3Description: Package Specification; ComponentLink3URL: http://www.ti.com/lit/ml/msop002a/msop002a.pdf
footprint NS0014A_N (SOIC,14-Leads,Body 10.5x5.6mm,Pitch 1.27mm,IPC Medium Density)
footprint NS0014A_M (SOIC,14-Leads,Body 10.5x5.6mm,Pitch 1.27mm,IPC Low Density)
footprint NS0014A_L (SOIC,14-Leads,Body 10.5x5.6mm,Pitch 0.4mm,IPC High Density)
part A pins: 1 1A (in) "Gate 1 input", 2 1B (in) "Gate 1 input", 3 1Y (out) "Gate 1 output"
part B pins: 4 2A (in) "Gate 2 input", 5 2B (in) "Gate 2 input", 6 2Y (out) "Gate 2 output"
part C pins: 8 3Y (out) "Gate 3 output", 9 3A (in) "Gate 3 input", 10 3B (in) "Gate 3 input"
part D pins: 11 4Y (out) "Gate 4 output", 12 4A (in) "Gate 4 input", 13 4B (in) "Gate 4 input"
part E pins: 7 GND (power) "Ground Pin", 14 VCC (power) "Power Pin"

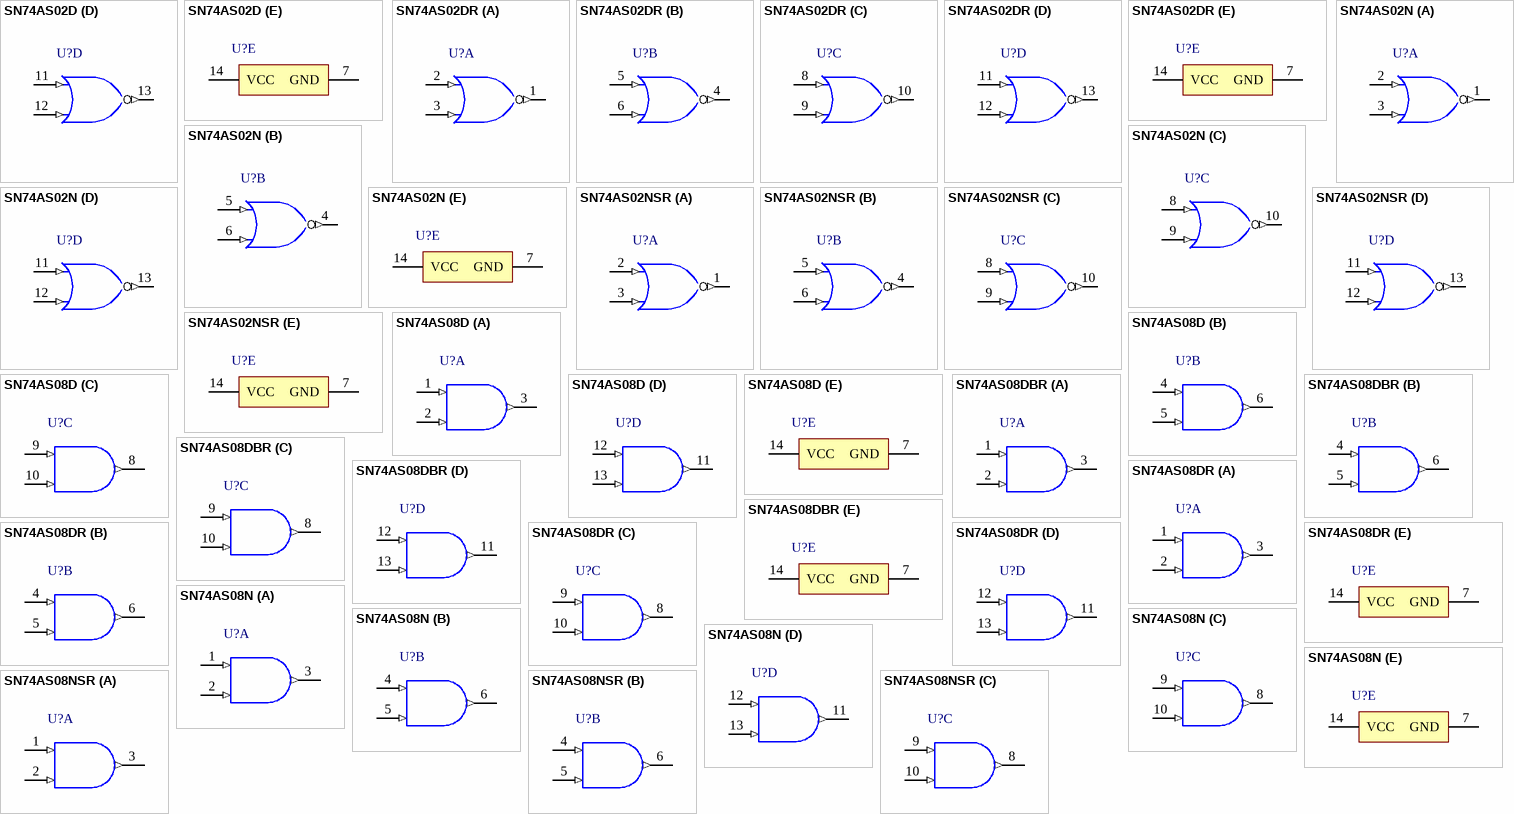
[diagram p117: symbols SN74AS02D to SN74AS08NSR]

## SN74AS02D
designator U?
Quadruple 2-Input Positive-NOR Gates, D0014A, TUBE; Generic Part Number: SN74AS02; Manufacturer: Texas Instruments; PartNumber: SN74AS02D; VCC(Min)(V): 4.5; VCC(Max)(V): 5.5; Output Type: TTL; Bits(#): 4; Rating: Catalog; tpd @ Nom Voltage(Max)(ns): 12; ICC @ Nom Voltage(Max)(mA): 0.004; F @ Nom Voltage(Max)(Mhz): 35; Voltage(Nom)(V): 5; Output Drive (IOL/IOH)(Max)(mA): 0.4/-8; DatasheetVersion: SDAS111B; PackageReference: D0014A; Input Type: TTL; Operating Temperature Range(C): 0 to 70; Code_JEDEC: MS-012; ComponentLink1Description: Manufacturer URL; ComponentLink1URL: http://www.ti.com/; ComponentLink2Description: Datasheet; ComponentLink2URL: http://www.ti.com/lit/ds/symlink/sn74as02.pdf; ComponentLink3Description: Package Specification; ComponentLink3URL: http://www.ti.com/lit/ml/mpds177g/mpds177g.pdf
footprint D0014A_N (SOIC, 14-Leads, Body 8.75x4mm, Pitch 1.27mm, IPC Medium Density)
footprint D0014A_M (SOIC, 14-Leads, Body 8.75x4mm, Pitch 1.27mm, IPC Low Density)
footprint D0014A_L (SOIC, 14-Leads, Body 8.75x4mm, Pitch 1.27mm, IPC High Density)
part A pins: 1 1Y (out) "1Y output", 2 1A (in) "1A input", 3 1B (in) "1B input"
part B pins: 4 2Y (out) "2Y output", 5 2A (in) "2A input", 6 2B (in) "2B input"
part C pins: 8 3A (in) "3A input", 9 3B (in) "3B input", 10 3Y (out) "3Y output"
part D pins: 11 4A (in) "4A input", 12 4B (in) "4B input", 13 4Y (out) "4Y output"
part E pins: 7 GND (power), 14 VCC (power)

## SN74AS02DR
designator U?
Quadruple 2-Input Positive-NOR Gates, D0014A, LARGE T&R; Generic Part Number: SN74AS02; Manufacturer: Texas Instruments; PartNumber: SN74AS02DR; VCC(Min)(V): 4.5; VCC(Max)(V): 5.5; Output Type: TTL; Bits(#): 4; Rating: Catalog; tpd @ Nom Voltage(Max)(ns): 12; ICC @ Nom Voltage(Max)(mA): 0.004; F @ Nom Voltage(Max)(Mhz): 35; Voltage(Nom)(V): 5; Output Drive (IOL/IOH)(Max)(mA): 0.4/-8; DatasheetVersion: SDAS111B; PackageReference: D0014A; Input Type: TTL; Operating Temperature Range(C): 0 to 70; Code_JEDEC: MS-012; ComponentLink1Description: Manufacturer URL; ComponentLink1URL: http://www.ti.com/; ComponentLink2Description: Datasheet; ComponentLink2URL: http://www.ti.com/lit/ds/symlink/sn74as02.pdf; ComponentLink3Description: Package Specification; ComponentLink3URL: http://www.ti.com/lit/ml/mpds177g/mpds177g.pdf
footprint D0014A_N (SOIC, 14-Leads, Body 8.75x4mm, Pitch 1.27mm, IPC Medium Density)
footprint D0014A_M (SOIC, 14-Leads, Body 8.75x4mm, Pitch 1.27mm, IPC Low Density)
footprint D0014A_L (SOIC, 14-Leads, Body 8.75x4mm, Pitch 1.27mm, IPC High Density)
part A pins: 1 1Y (out) "1Y output", 2 1A (in) "1A input", 3 1B (in) "1B input"
part B pins: 4 2Y (out) "2Y output", 5 2A (in) "2A input", 6 2B (in) "2B input"
part C pins: 8 3A (in) "3A input", 9 3B (in) "3B input", 10 3Y (out) "3Y output"
part D pins: 11 4A (in) "4A input", 12 4B (in) "4B input", 13 4Y (out) "4Y output"
part E pins: 7 GND (power), 14 VCC (power)

## SN74AS02N
designator U?
Quadruple 2-Input Positive-NOR Gates, N0014A, TUBE; Generic Part Number: SN74AS02; Manufacturer: Texas Instruments; PartNumber: SN74AS02N; VCC(Min)(V): 4.5; VCC(Max)(V): 5.5; Output Type: TTL; Bits(#): 4; Rating: Catalog; tpd @ Nom Voltage(Max)(ns): 12; ICC @ Nom Voltage(Max)(mA): 0.004; F @ Nom Voltage(Max)(Mhz): 35; Voltage(Nom)(V): 5; Output Drive (IOL/IOH)(Max)(mA): 0.4/-8; DatasheetVersion: SDAS111B; PackageReference: N0014A; Input Type: TTL; Operating Temperature Range(C): 0 to 70; Code_JEDEC: MS-001; ComponentLink1Description: Manufacturer URL; ComponentLink1URL: http://www.ti.com/; ComponentLink2Description: Datasheet; ComponentLink2URL: http://www.ti.com/lit/ds/symlink/sn74as02.pdf; ComponentLink3Description: Package Specification; ComponentLink3URL: http://www.ti.com/lit/ml/mpdi002c/mpdi002c.pdf
footprint N0014A (DIP, 14-Leads, Body 19.7x6.6mm, Pitch 2.54mm)
part A pins: 1 1Y (out) "1Y output", 2 1A (in) "1A input", 3 1B (in) "1B input"
part B pins: 4 2Y (out) "2Y output", 5 2A (in) "2A input", 6 2B (in) "2B input"
part C pins: 8 3A (in) "3A input", 9 3B (in) "3B input", 10 3Y (out) "3Y output"
part D pins: 11 4A (in) "4A input", 12 4B (in) "4B input", 13 4Y (out) "4Y output"
part E pins: 7 GND (power), 14 VCC (power)

## SN74AS02NSR
designator U?
Quadruple 2-Input Positive-NOR Gates, NS0014A, LARGE T&R; Generic Part Number: SN74AS02; Manufacturer: Texas Instruments; PartNumber: SN74AS02NSR; VCC(Min)(V): 4.5; VCC(Max)(V): 5.5; Output Type: TTL; Bits(#): 4; Rating: Catalog; tpd @ Nom Voltage(Max)(ns): 12; ICC @ Nom Voltage(Max)(mA): 0.004; F @ Nom Voltage(Max)(Mhz): 35; Voltage(Nom)(V): 5; Output Drive (IOL/IOH)(Max)(mA): 0.4/-8; DatasheetVersion: SDAS111B; PackageReference: NS0014A; Input Type: TTL; Operating Temperature Range(C): 0 to 70; ComponentLink1Description: Manufacturer URL; ComponentLink1URL: http://www.ti.com/; ComponentLink2Description: Datasheet; ComponentLink2URL: http://www.ti.com/lit/ds/symlink/sn74as02.pdf; ComponentLink3Description: Package Specification; ComponentLink3URL: http://www.ti.com/lit/ml/msop002a/msop002a.pdf
footprint NS0014A_N (SOIC,14-Leads,Body 10.5x5.6mm,Pitch 1.27mm,IPC Medium Density)
footprint NS0014A_M (SOIC,14-Leads,Body 10.5x5.6mm,Pitch 1.27mm,IPC Low Density)
footprint NS0014A_L (SOIC,14-Leads,Body 10.5x5.6mm,Pitch 0.4mm,IPC High Density)
part A pins: 1 1Y (out) "1Y output", 2 1A (in) "1A input", 3 1B (in) "1B input"
part B pins: 4 2Y (out) "2Y output", 5 2A (in) "2A input", 6 2B (in) "2B input"
part C pins: 8 3A (in) "3A input", 9 3B (in) "3B input", 10 3Y (out) "3Y output"
part D pins: 11 4A (in) "4A input", 12 4B (in) "4B input", 13 4Y (out) "4Y output"
part E pins: 7 GND (power), 14 VCC (power)

## SN74AS08D
designator U?
Quadruple 2-Input Positive-AND Gates, D0014A, TUBE; Generic Part Number: SN74AS08; Manufacturer: Texas Instruments; PartNumber: SN74AS08D; VCC(Min)(V): 4.5; VCC(Max)(V): 5.5; Output Type: TTL; ICC @ Nom Voltage(Max)(mA): 0.0024; Bits(#): 4; F @ Nom Voltage(Max)(Mhz): 125; Rating: Catalog; Technology Family: AS; Voltage(Nom)(V): 5; Schmitt Trigger: No; Output Drive (IOL/IOH)(Max)(mA): -24/24; tpd @ Nom Voltage(Max)(ns): 14; DatasheetVersion: SDAS191A; PackageReference: D0014A; Supplier 1: Mouser; Supplier Part Number 1: 595-SN74AS08D; Supplier 2: Digi-Key; Supplier Part Number 2: 296-33785-5-ND; Input Type: TTL; Operating Temperature Range(C): 0 to 70; ComponentLink1Description: Manufacturer URL; ComponentLink1URL: http://www.ti.com/; ComponentLink2Description: Datasheet; ComponentLink2URL: http://www.ti.com/lit/ds/symlink/sn74as08.pdf
footprint D0014A_N (SOIC, 14-Leads, Body 8.75x4mm, Pitch 1.27mm, IPC Medium Density)
footprint D0014A_M (SOIC, 14-Leads, Body 8.75x4mm, Pitch 1.27mm, IPC Low Density)
footprint D0014A_L (SOIC, 14-Leads, Body 8.75x4mm, Pitch 1.27mm, IPC High Density)
part A pins: 1 1A (in), 2 1B (in), 3 1Y (out)
part B pins: 4 2A (in), 5 2B (in), 6 2Y (out)
part C pins: 8 3Y (out), 9 3A (in), 10 3B (in)
part D pins: 11 4Y (out), 12 4A (in), 13 4B (in)
part E pins: 7 GND (power), 14 VCC (power)

## SN74AS08DBR
designator U?
Quadruple 2-Input Positive-AND Gates, DB0014A, LARGE T&R; Generic Part Number: SN74AS08; Manufacturer: Texas Instruments; PartNumber: SN74AS08DBR; VCC(Min)(V): 4.5; VCC(Max)(V): 5.5; Output Type: TTL; ICC @ Nom Voltage(Max)(mA): 0.0024; Bits(#): 4; F @ Nom Voltage(Max)(Mhz): 125; Rating: Catalog; Technology Family: AS; Voltage(Nom)(V): 5; Schmitt Trigger: No; Output Drive (IOL/IOH)(Max)(mA): -24/24; tpd @ Nom Voltage(Max)(ns): 14; DatasheetVersion: SDAS191A; PackageReference: DB0014A; Supplier 1: Mouser; Supplier Part Number 1: N/A; Input Type: TTL; Operating Temperature Range(C): 0 to 70; ComponentLink1Description: Manufacturer URL; ComponentLink1URL: http://www.ti.com/; ComponentLink2Description: Datasheet; ComponentLink2URL: http://www.ti.com/lit/ds/symlink/sn74as08.pdf
footprint DB0014A_N (SOP, 14-Leads, Body 5.6x6.5mm, Pitch 0.65mm, IPC Medium Density)
footprint DB0014A_M (SOP, 14-Leads, Body 5.6x6.5mm, Pitch 0.65mm, IPC Low Density)
footprint DB0014A_L (SOP, 14-Leads, Body 5.6x6.5mm, Pitch 0.65mm, IPC High Density)
part A pins: 1 1A (in), 2 1B (in), 3 1Y (out)
part B pins: 4 2A (in), 5 2B (in), 6 2Y (out)
part C pins: 8 3Y (out), 9 3A (in), 10 3B (in)
part D pins: 11 4Y (out), 12 4A (in), 13 4B (in)
part E pins: 7 GND (power), 14 VCC (power)

## SN74AS08DR
designator U?
Quadruple 2-Input Positive-AND Gates, D0014A, LARGE T&R; Generic Part Number: SN74AS08; Manufacturer: Texas Instruments; PartNumber: SN74AS08DR; VCC(Min)(V): 4.5; VCC(Max)(V): 5.5; Output Type: TTL; ICC @ Nom Voltage(Max)(mA): 0.0024; Bits(#): 4; F @ Nom Voltage(Max)(Mhz): 125; Rating: Catalog; Technology Family: AS; Voltage(Nom)(V): 5; Schmitt Trigger: No; Output Drive (IOL/IOH)(Max)(mA): -24/24; tpd @ Nom Voltage(Max)(ns): 14; DatasheetVersion: SDAS191A; PackageReference: D0014A; Supplier 1: Mouser; Supplier Part Number 1: 595-SN74AS08DR; Supplier 2: Digi-Key; Supplier Part Number 2: 296-6325-2-ND; Supplier 3: Digi-Key; Supplier Part Number 3: 296-6325-1-ND; Supplier 4: Digi-Key; Supplier Part Number 4: 296-6325-6-ND; Input Type: TTL; Operating Temperature Range(C): 0 to 70; ComponentLink1Description: Manufacturer URL; ComponentLink1URL: http://www.ti.com/; ComponentLink2Description: Datasheet; ComponentLink2URL: http://www.ti.com/lit/ds/symlink/sn74as08.pdf
footprint D0014A_N (SOIC, 14-Leads, Body 8.75x4mm, Pitch 1.27mm, IPC Medium Density)
footprint D0014A_M (SOIC, 14-Leads, Body 8.75x4mm, Pitch 1.27mm, IPC Low Density)
footprint D0014A_L (SOIC, 14-Leads, Body 8.75x4mm, Pitch 1.27mm, IPC High Density)
part A pins: 1 1A (in), 2 1B (in), 3 1Y (out)
part B pins: 4 2A (in), 5 2B (in), 6 2Y (out)
part C pins: 8 3Y (out), 9 3A (in), 10 3B (in)
part D pins: 11 4Y (out), 12 4A (in), 13 4B (in)
part E pins: 7 GND (power), 14 VCC (power)

## SN74AS08N
designator U?
Quadruple 2-Input Positive-AND Gates, N0014A, TUBE; Generic Part Number: SN74AS08; Manufacturer: Texas Instruments; PartNumber: SN74AS08N; VCC(Min)(V): 4.5; VCC(Max)(V): 5.5; Output Type: TTL; ICC @ Nom Voltage(Max)(mA): 0.0024; Bits(#): 4; F @ Nom Voltage(Max)(Mhz): 125; Rating: Catalog; Technology Family: AS; Voltage(Nom)(V): 5; Schmitt Trigger: No; Output Drive (IOL/IOH)(Max)(mA): -24/24; tpd @ Nom Voltage(Max)(ns): 14; DatasheetVersion: SDAS191A; PackageReference: N0014A; Supplier 1: Mouser; Supplier Part Number 1: 595-SN74AS08N; Supplier 2: Digi-Key; Supplier Part Number 2: 296-1523-5-ND; Input Type: TTL; Operating Temperature Range(C): 0 to 70; ComponentLink1Description: Manufacturer URL; ComponentLink1URL: http://www.ti.com/; ComponentLink2Description: Datasheet; ComponentLink2URL: http://www.ti.com/lit/ds/symlink/sn74as08.pdf
footprint N0014A (DIP, 14-Leads, Body 19.7x6.6mm, Pitch 2.54mm)
part A pins: 1 1A (in), 2 1B (in), 3 1Y (out)
part B pins: 4 2A (in), 5 2B (in), 6 2Y (out)
part C pins: 8 3Y (out), 9 3A (in), 10 3B (in)
part D pins: 11 4Y (out), 12 4A (in), 13 4B (in)
part E pins: 7 GND (power), 14 VCC (power)

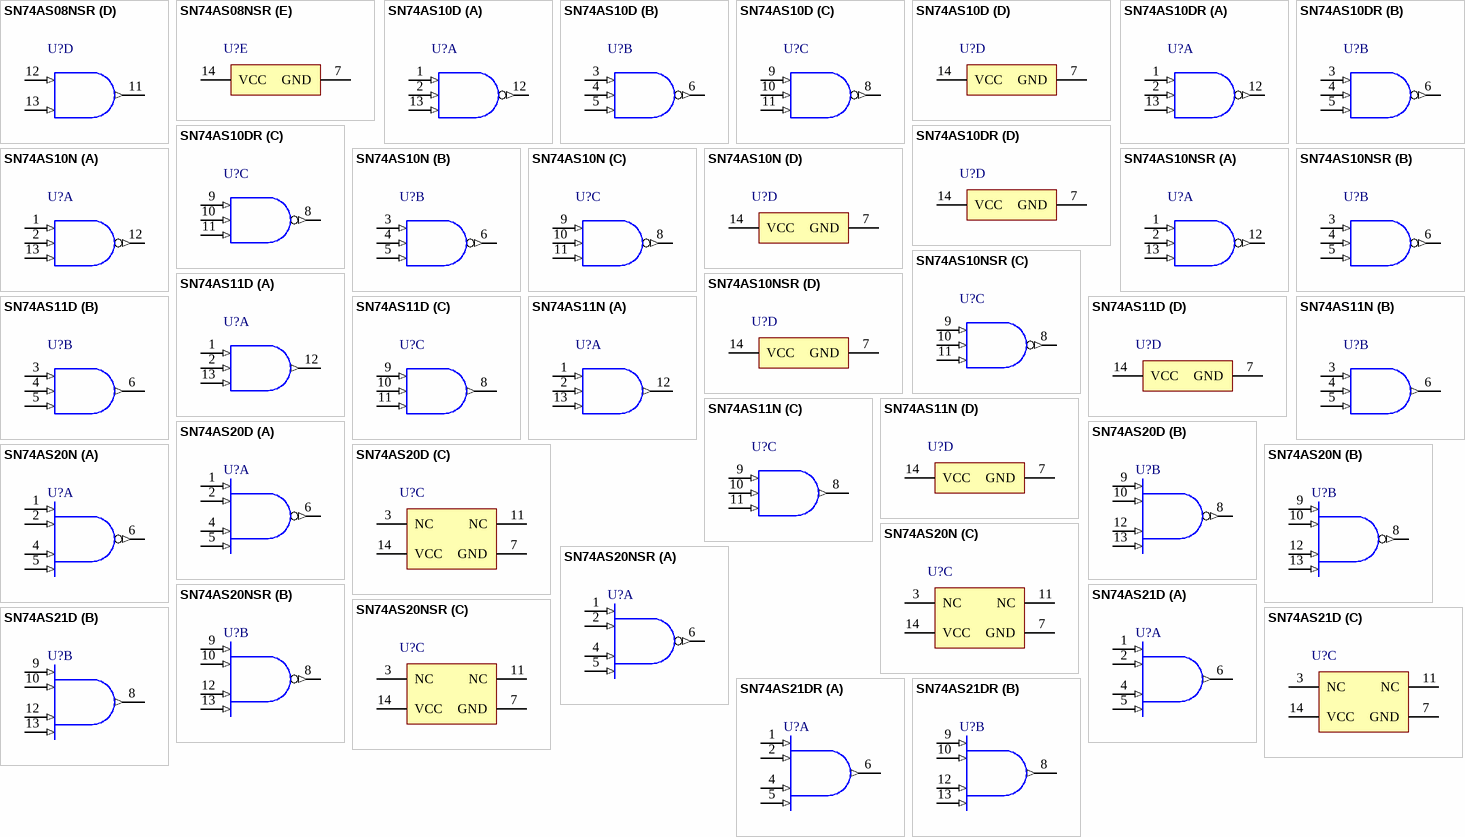
[diagram p118: symbols SN74AS08NSR to SN74AS21DR]

## SN74AS08NSR
designator U?
Quadruple 2-Input Positive-AND Gates, NS0014A, LARGE T&R; Generic Part Number: SN74AS08; Manufacturer: Texas Instruments; PartNumber: SN74AS08NSR; VCC(Min)(V): 4.5; VCC(Max)(V): 5.5; Output Type: TTL; ICC @ Nom Voltage(Max)(mA): 0.0024; Bits(#): 4; F @ Nom Voltage(Max)(Mhz): 125; Rating: Catalog; Technology Family: AS; Voltage(Nom)(V): 5; Schmitt Trigger: No; Output Drive (IOL/IOH)(Max)(mA): -24/24; tpd @ Nom Voltage(Max)(ns): 14; DatasheetVersion: SDAS191A; PackageReference: NS0014A; Supplier 1: Mouser; Supplier Part Number 1: 595-SN74AS08NSR; Supplier 2: Digi-Key; Supplier Part Number 2: 296-29288-2-ND; Supplier 3: Digi-Key; Supplier Part Number 3: 296-29288-1-ND; Supplier 4: Digi-Key; Supplier Part Number 4: 296-29288-6-ND; Input Type: TTL; Operating Temperature Range(C): 0 to 70; ComponentLink1Description: Manufacturer URL; ComponentLink1URL: http://www.ti.com/; ComponentLink2Description: Datasheet; ComponentLink2URL: http://www.ti.com/lit/ds/symlink/sn74as08.pdf
footprint NS0014A_N (SOIC,14-Leads,Body 10.5x5.6mm,Pitch 1.27mm,IPC Medium Density)
footprint NS0014A_M (SOIC,14-Leads,Body 10.5x5.6mm,Pitch 1.27mm,IPC Low Density)
footprint NS0014A_L (SOIC,14-Leads,Body 10.5x5.6mm,Pitch 0.4mm,IPC High Density)
part A pins: 1 1A (in), 2 1B (in), 3 1Y (out)
part B pins: 4 2A (in), 5 2B (in), 6 2Y (out)
part C pins: 8 3Y (out), 9 3A (in), 10 3B (in)
part D pins: 11 4Y (out), 12 4A (in), 13 4B (in)
part E pins: 7 GND (power), 14 VCC (power)

## SN74AS10D
designator U?
Triple 3-Input Positive-NAND Gates, D0014A, TUBE; Generic Part Number: SN74AS10; Manufacturer: Texas Instruments; PartNumber: SN74AS10D; VCC(Min)(V): 4.5; VCC(Max)(V): 5.5; Output Type: TTL; ICC @ Nom Voltage(Max)(mA): 0.0022; Bits(#): 3; F @ Nom Voltage(Max)(Mhz): 35; Rating: Catalog; Technology Family: AS; Voltage(Nom)(V): 5; Schmitt Trigger: No; Output Drive (IOL/IOH)(Max)(mA): 0.4/-8; DatasheetVersion: SDAS002B; PackageReference: D0014A; Supplier 1: Mouser; Supplier Part Number 1: 595-SN74AS10D; Supplier 2: Digi-Key; Supplier Part Number 2: 296-33791-5-ND; Input Type: TTL; Operating Temperature Range(C): 0 to 70; tpd @ Nom Voltage(Max)(ns): 4.5; Code_JEDEC: MS-012; ComponentLink1Description: Manufacturer URL; ComponentLink1URL: http://www.ti.com/; ComponentLink2Description: Datasheet; ComponentLink2URL: http://www.ti.com/lit/ds/symlink/sn74as10.pdf; ComponentLink3Description: Package Specification; ComponentLink3URL: http://www.ti.com/lit/ml/mpds177g/mpds177g.pdf
footprint D0014A_N (SOIC, 14-Leads, Body 8.75x4mm, Pitch 1.27mm, IPC Medium Density)
footprint D0014A_M (SOIC, 14-Leads, Body 8.75x4mm, Pitch 1.27mm, IPC Low Density)
footprint D0014A_L (SOIC, 14-Leads, Body 8.75x4mm, Pitch 1.27mm, IPC High Density)
part A pins: 1 1A (in), 2 1B (in), 12 1Y (out), 13 1C (in)
part B pins: 3 2A (in), 4 2B (in), 5 2C (in), 6 2Y (out)
part C pins: 8 3Y (out), 9 3A (in), 10 3B (in), 11 3C (in)
part D pins: 7 GND (power), 14 VCC (power)